# EAGLE library part ADS8694 (library shepherd)
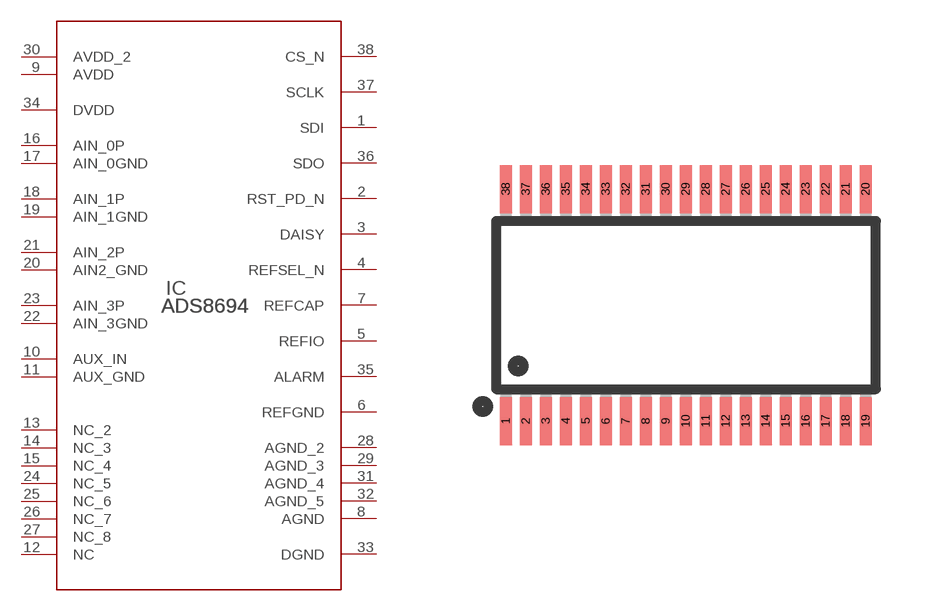
[diagram p1: symbol with the pads of TSSOP38; footprint TSSOP38]

Designator prefix IC

## ADS8694TSSOP38  [TSSOP38]
1  SDI  in
2  RST_PD_N  in
3  DAISY  in
4  REFSEL_N  in
5  REFIO
6  REFGND  pwr
7  REFCAP  pas
8  AGND  pwr
9  AVDD  pwr
10  AUX_IN  in
11  AUX_GND  pwr
12  NC  pas
13  NC_2  pas
14  NC_3  pas
15  NC_4  pas
16  AIN_0P  in
17  AIN_0GND  pwr
18  AIN_1P  in
19  AIN_1GND  pwr
20  AIN2_GND  pwr
21  AIN_2P  in
22  AIN_3GND  pwr
23  AIN_3P  in
24  NC_5  pas
25  NC_6  pas
26  NC_7  pas
27  NC_8  pas
28  AGND_2  pwr
29  AGND_3  pwr
30  AVDD_2  pwr
31  AGND_4  pwr
32  AGND_5  pwr
33  DGND  pwr
34  DVDD  pwr
35  ALARM  out
36  SDO  out
37  SCLK  in
38  CS_N  in

## Footprint TSSOP38 (pad centres in mm)
38-Lead Thin Shrink Small Outline Package [TSSOP] RU-38 Source: http://www.analog.com/UploadedFiles/Packages/415413609854197792024125RU38.pdf COMPLIANT TO JEDEC STANDARDS MS-153BD-1
smd 0.3 x 1.2: 1 -4.5,-2.9; 2 -4,-2.9; 3 -3.5,-2.9; 4 -3,-2.9; 5 -2.5,-2.9; 6 -2,-2.9; 7 -1.5,-2.9; 8 -1,-2.9; 9 -0.5,-2.9; 10 0,-2.9; 11 0.5,-2.9; 12 1,-2.9; 13 1.5,-2.9; 14 2,-2.9; 15 2.5,-2.9; 16 3,-2.9; 17 3.5,-2.9; 18 4,-2.9; 19 4.5,-2.9; 20 4.5,2.9; 21 4,2.9; 22 3.5,2.9; 23 3,2.9; 24 2.5,2.9; 25 2,2.9; 26 1.5,2.9; 27 1,2.9; 28 0.5,2.9; 29 0,2.9; 30 -0.5,2.9; 31 -1,2.9; 32 -1.5,2.9; 33 -2,2.9; 34 -2.5,2.9; 35 -3,2.9; 36 -3.5,2.9; 37 -4,2.9; 38 -4.5,2.9